# Altium schematic symbol library LTC3558-QFN20.SchLib: 1 symbol
Pins are listed as number, name and electrical type; pins without a type are passive.

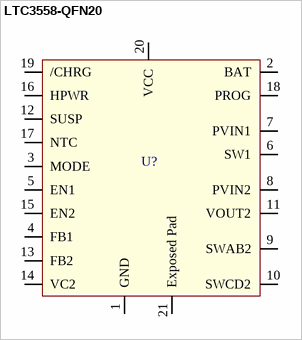
[diagram p0: symbol LTC3558-QFN20]

## LTC3558-QFN20
designator U?  (value not drawn)
pins: 1 GND, 2 BAT, 3 MODE, 4 FB1, 5 EN1, 6 SW1, 7 PVIN1, 8 PVIN2, 9 SWAB2, 10 SWCD2, 11 VOUT2, 12 SUSP, 13 FB2, 14 VC2, 15 EN2, 16 HPWR, 17 NTC, 18 PROG, 19 /CHRG, 20 VCC, 21 Exposed Pad